# Altium footprint library GD25Q64CSIGR.PcbLib: 3 footprints
Each footprint in its own frame and in the unit in brackets; x right, y up, seen from the top. Pads: shape width x height; smd on the part's side, far side on the other; paste and mask are expansions set on the pad; w line width, h text height; cw(c..) or ccw(c..) is an arc to the next point about the centre after c.
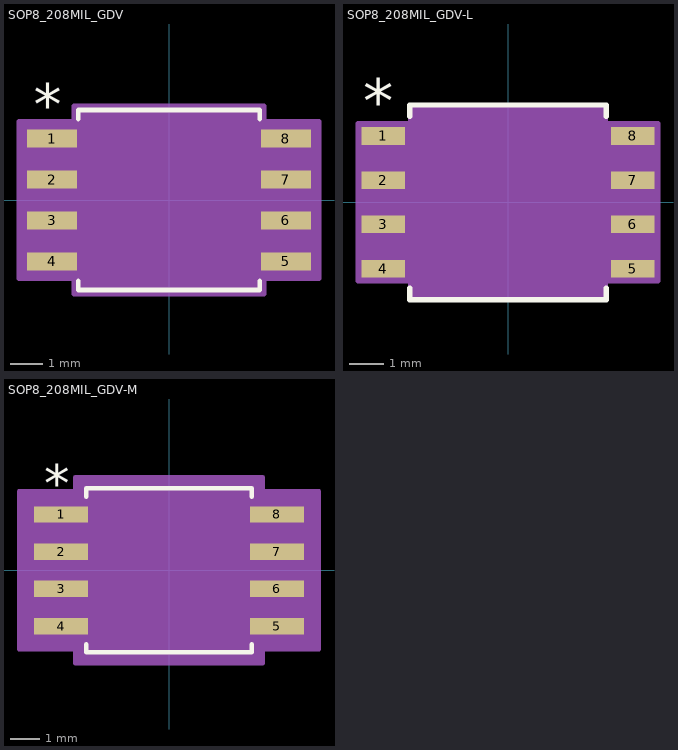
[diagram p0: the footprints below, top view; thin cyan lines are the x and y axes]

## SOP8_208MIL_GDV [mil]
pads (8):
  rect 61x22 smd paste+0 mask+0: 1(-143,75) 2(-143,25) 3(-143,-25) 4(-143,-75) 5(143,-75) 6(143,-25) 7(143,25) 8(143,75)
Top Overlay:
  lines w6: -111,-99.01 -111,-110 111,-110 111,-99.01 ; -111,99.01 -111,110 111,110 111,99.01
  text "*" at -165.5,92 h50
Mechanical 13:
  lines w0: -12,105 ccw(c0,105) 12,105
  lines w1: -159.5,-85 -106,-85 -106,-65 -159.5,-65 -159.5,-85 ; -159.5,-35 -106,-35 -106,-15 -159.5,-15 -159.5,-35 ; -159.5,15 -106,15 -106,35 -159.5,35 -159.5,15 ; -159.5,65 -106,65 -106,85 -159.5,85 -159.5,65 ; -106,-105 -106,105 106,105 106,-105 -106,-105 ; 106,-85 159.5,-85 159.5,-65 106,-65 106,-85 ; 106,-35 159.5,-35 159.5,-15 106,-15 106,-35 ; 106,15 159.5,15 159.5,35 106,35 106,15 ; 106,65 159.5,65 159.5,85 106,85 106,65
  text "*" at -103.5,52 h50
Mechanical 15:
  region: -116,-96 -183.5,-96 -183.5,96 -116,96 -116,115 116,115 116,96 183.5,96 183.5,-96 116,-96 116,-115 -116,-115
  lines w6: -183.5,-96 -116,-96 -116,-115 116,-115 116,-96 183.5,-96 183.5,96 116,96 116,115 -116,115 -116,96 -183.5,96 -183.5,-96
3D body "SOP8_208MIL_GDV.step": height 85.12, standoff 0, extent -159.49,-105 159.49,105

## SOP8_208MIL_GDV-L [mil]
pads (8):
  rect 49x20 smd paste+0 mask+0: 1(-141,75) 2(-141,25) 3(-141,-25) 4(-141,-75) 5(141,-75) 6(141,-25) 7(141,25) 8(141,75)
Top Overlay:
  lines w6: -111,-96.89 -111,-110 111,-110 111,-96.89 ; -111,96.89 -111,110 111,110 111,96.89
  text "*" at -163.5,90 h50
Mechanical 13:
  lines w0: -12,105 ccw(c0,105) 12,105
  lines w1: -159.5,-85 -159.5,-65 -106,-65 -106,-85 -159.5,-85 ; -159.5,-35 -159.5,-15 -106,-15 -106,-35 -159.5,-35 ; -159.5,15 -159.5,35 -106,35 -106,15 -159.5,15 ; -159.5,65 -159.5,85 -106,85 -106,65 -159.5,65 ; -106,-105 106,-105 106,105 -106,105 -106,-105 ; 106,-85 106,-65 159.5,-65 159.5,-85 106,-85 ; 106,-35 106,-15 159.5,-15 159.5,-35 106,-35 ; 106,15 106,35 159.5,35 159.5,15 106,15 ; 106,65 106,85 159.5,85 159.5,65 106,65
  text "*" at -103.5,52 h50
Mechanical 15:
  region: -110,-89 -169.5,-89 -169.5,89 -110,89 -110,109 110,109 110,89 169.5,89 169.5,-89 110,-89 110,-109 -110,-109
  lines w6: -169.5,-89 -169.5,89 -110,89 -110,109 110,109 110,89 169.5,89 169.5,-89 110,-89 110,-109 -110,-109 -110,-89 -169.5,-89
3D body "SOP8_208MIL_GDV.step": height 85.12, standoff 0, extent -159.49,-105 159.49,105

## SOP8_208MIL_GDV-M [mil]
pads (8):
  rect 73x22 smd paste+0 mask+0: 1(-145,75) 2(-145,25) 3(-145,-25) 4(-145,-75) 5(145,-75) 6(145,-25) 7(145,25) 8(145,75)
Top Overlay:
  lines w6: -111,-99.1 -111,-110 111,-110 111,-99.1 ; -111,99.1 -111,110 111,110 111,99.1
  text "*" at -167.5,92 h50
Mechanical 13:
  lines w0: -12,105 ccw(c0,105) 12,105
  lines w1: -159.5,-85 -159.5,-65 -106,-65 -106,-85 -159.5,-85 ; -159.5,-35 -159.5,-15 -106,-15 -106,-35 -159.5,-35 ; -159.5,15 -159.5,35 -106,35 -106,15 -159.5,15 ; -159.5,65 -159.5,85 -106,85 -106,65 -159.5,65 ; -106,-105 106,-105 106,105 -106,105 -106,-105 ; 106,-85 106,-65 159.5,-65 159.5,-85 106,-85 ; 106,-35 106,-15 159.5,-15 159.5,-35 106,-35 ; 106,15 106,35 159.5,35 159.5,15 106,15 ; 106,65 106,85 159.5,85 159.5,65 106,65
  text "*" at -103.5,52 h50
Mechanical 15:
  region: -126,-106 -201.5,-106 -201.5,106 -126,106 -126,125 126,125 126,106 201.5,106 201.5,-106 126,-106 126,-125 -126,-125
  lines w6: -201.5,-106 -201.5,106 -126,106 -126,125 126,125 126,106 201.5,106 201.5,-106 126,-106 126,-125 -126,-125 -126,-106 -201.5,-106
3D body "SOP8_208MIL_GDV.step": height 85.12, standoff 0, extent -159.49,-105 159.49,105